# Altium schematic symbol library rlc.SchLib: 55 symbols
Pins are listed as number, name and electrical type; pins without a type are passive.

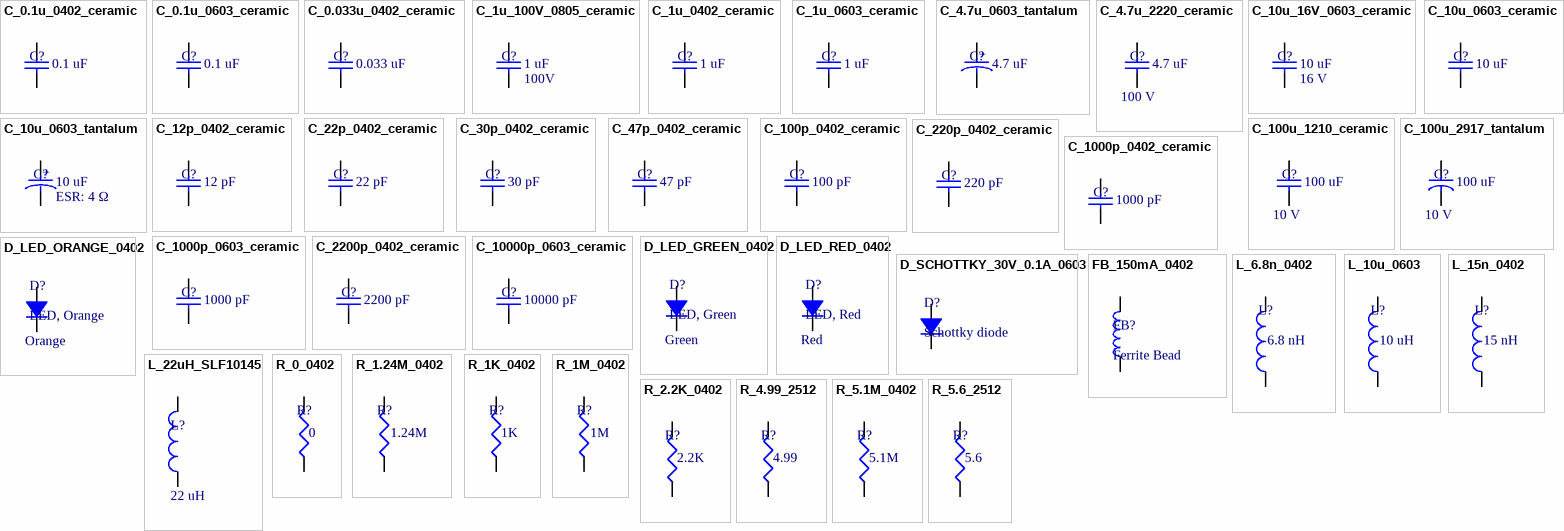
[diagram p0: symbols C_0.1u_0402_ceramic to R_5.6_2512]

## C_0.1u_0402_ceramic
designator C?, comment value 0.1 uF  (hidden comment: Ceramic capacitor)
Ceramic capacitor, 0.1u, 0402 package; Manufacture: TDK; voltage rated: 10 V; tolerance: 10%; Supplier 1: Digi-Key; Supplier Part Number 1: 445-1265-1-ND; package: 0402
footprint 0402 (2-Leads, Body 1.00x0.50mm, IPC Medium Density)
pins: 1, 2

## C_0.1u_0603_ceramic
designator C?, comment value 0.1 uF  (hidden comment: Ceramic capacitor)
Ceramic capacitor, 0.1 uF, 0603 package; Manufacture: TDK; voltage rated: 25V; tolerance: 10%; package: 0603; Supplier 1: Digi-Key; Supplier Part Number 1: 445-1316-1-ND
footprint 0603 (2-Leads, Body 1.55x0.85mm, IPC Medium Density)
pins: 1, 2

## C_0.033u_0402_ceramic
designator C?, comment value 0.033 uF  (hidden comment: Ceramic capacitor)
Ceramic capacitor, 0.033 uF, 0402 package; Manufacture: TDK; voltage rated: 50 V; tolerance: 10%; Temperature Coefficient: X7R; package: 0603; Supplier 1: Digi-Key; Supplier Part Number 1: 445-7334-1-ND
footprint 0402 (2-Leads, Body 1.00x0.50mm, IPC Medium Density)
pins: 1, 2

## C_1u_100V_0805_ceramic
designator C?, comment value 1 uF  voltage rated: 100V  (hidden comment: Ceramic capacitor)
Ceramic capacitor, 1 uF, 100 V, 0805 package; Manufacture: TDK; tolerance: 10%; Temperature Coefficient: X7S; package: 0805; Supplier 1: Digi-Key; Supplier Part Number 1: 445-5205-1-ND
footprint 0805 (Chip Resistor, Body 2.0x1.2mm, IPC Low Density)
pins: 1, 2

## C_1u_0402_ceramic
designator C?, comment value 1 uF  (hidden comment: Ceramic capacitor)
Ceramic capacitor, 1 uF, 0402 package; Manufacture: TDK; voltage rated: 6.3 V; tolerance: 10%; package: 0402; Supplier 1: Digi-Key; Supplier Part Number 1: 445-5000-1-ND
footprint 0402 (2-Leads, Body 1.00x0.50mm, IPC Medium Density)
pins: 1, 2

## C_1u_0603_ceramic
designator C?, comment value 1 uF  (hidden comment: Ceramic capacitor)
Ceramic capacitor, 1 uF, 0603 package; Manufacture: TDK; voltage rated: 10V; tolerance: 10%; package: 0603; Supplier 1: Digi-Key; Supplier Part Number 1: 445-1321-1-ND
footprint 0603 (2-Leads, Body 1.55x0.85mm, IPC Medium Density)
pins: 1, 2

## C_4.7u_0603_tantalum
designator C?, comment value 4.7 uF  (hidden comment: Tantalum capacitor)
Tantalum capacitor, 4.7 uF, 0603 package; Manufacture: Rohm; voltage rated: 10 V; tolerance: 20%; package: 0603; Supplier 1: Digi-Key; Supplier Part Number 1: 511-1496-1-ND
footprint 0603 - Polar Marking (2-Leads, Body 1.55x0.85mm, IPC Medium Density)
pins: 1, 2
text: +

## C_4.7u_2220_ceramic
designator C?, comment value 4.7 uF  voltage rated: 100 V  (hidden comment: Ceramic capacitor)
Ceramic capacitor, 4.7u, 2220 package; Manufacture: TDK; tolerance: 20%; Temp rating: X7R; package: 2220; Supplier 1: Digi-Key; Supplier Part Number 1: 445-1450-1-ND
footprint 2220 (Chip Capacitor, 2-Leads, Body 5.70x5.00mm, IPC Medium Density)
pins: 1, 2

## C_10u_16V_0603_ceramic
designator C?, comment value 10 uF  voltage rated: 16 V  (hidden comment: Ceramic capacitor)
Ceramic capacitor, 10 uF, 16 V, 0603 package; Manufacture: TDK; tolerance: 20%; Temperature Coefficient: X5R; package: 0603; Supplier 1: Digi-Key; Supplier Part Number 1: 445-9065-6-ND
footprint 0603 (2-Leads, Body 1.55x0.85mm, IPC Medium Density)
pins: 1, 2

## C_10u_0603_ceramic
designator C?, comment value 10 uF  (hidden comment: Ceramic capacitor)
Ceramic capacitor, 10 uF, 0603 package; Manufacture: TDK; voltage rated: 6.3V; tolerance: 20%; package: 0603; Supplier 1: Digi-Key; Supplier Part Number 1: 445-4112-1-ND
footprint 0603 (2-Leads, Body 1.55x0.85mm, IPC Medium Density)
pins: 1, 2

## C_10u_0603_tantalum
designator C?, comment value 10 uF  ESR: 4 Ω  (hidden comment: Tantalum capacitor)
Tantalum capacitor, 10 uF, 0603 package; Manufacture: AVX; voltage rated: 6.3V; tolerance: 10%; package: 0603; Supplier 1: Digi-Key; Supplier Part Number 1: 478-4959-1-ND
footprint 0603 - Polar Marking (2-Leads, Body 1.55x0.85mm, IPC Medium Density)
pins: 1, 2
text: +

## C_12p_0402_ceramic
designator C?, comment value 12 pF  (hidden comment: Ceramic capacitor)
Ceramic capacitor, 12 pF, 0402 package; Manufacture: Johanson; voltage rated: 50 V; tolerance: 2%; package: 0402; Supplier 1: Digi-Key; Supplier Part Number 1: 712-1256-1-ND
footprint 0402 (2-Leads, Body 1.00x0.50mm, IPC Medium Density)
pins: 1, 2

## C_22p_0402_ceramic
designator C?, comment value 22 pF  (hidden comment: Ceramic capacitor)
Ceramic capacitor, 22 pF, 0402 package; Manufacture: Johanson; voltage rated: 50 V; tolerance: 2%; package: 0402; Supplier 1: Digi-Key; Supplier Part Number 1: 712-1274-1-ND
footprint 0402 (2-Leads, Body 1.00x0.50mm, IPC Medium Density)
pins: 1, 2

## C_30p_0402_ceramic
designator C?, comment value 30 pF  (hidden comment: Ceramic capacitor)
Ceramic capacitor, 30 pF, 0402 package; Manufacture: Johanson; voltage rated: 50 V; tolerance: 2%; package: 0402; Supplier 1: Digi-Key; Supplier Part Number 1: 712-1295-1-ND
footprint 0402 (2-Leads, Body 1.00x0.50mm, IPC Medium Density)
pins: 1, 2

## C_47p_0402_ceramic
designator C?, comment value 47 pF  (hidden comment: Ceramic capacitor)
Ceramic capacitor, 47 pF, 0402 package; Manufacture: Johanson; voltage rated: 50 V; tolerance: 5%; package: 0402; Supplier 1: Digi-Key; Supplier Part Number 1: 709-1121-1-ND
footprint 0402 (2-Leads, Body 1.00x0.50mm, IPC Medium Density)
pins: 1, 2

## C_100p_0402_ceramic
designator C?, comment value 100 pF  (hidden comment: Ceramic capacitor)
Ceramic capacitor, 100 pF, 0402 package; Manufacture: Kemet; voltage rated: 25 V; tolerance: 1%; package: 0402; Supplier 1: Digi-Key; Supplier Part Number 1: 399-11246-1-ND
footprint 0402 (2-Leads, Body 1.00x0.50mm, IPC Medium Density)
pins: 1, 2

## C_100u_1210_ceramic
designator C?, comment value 100 uF  voltage rated: 10 V  (hidden comment: Ceramic capacitor)
Ceramic capacitor, 100u, 1210 package; Manufacture: Samsung; tolerance: 20%; package: 2917; Supplier 1: Digi-Key; Supplier Part Number 1: 1276-3364-1-ND
footprint 1210
pins: 1, 2

## C_100u_2917_tantalum
designator C?, comment value 100 uF  voltage rated: 10 V  (hidden comment: Ceramic capacitor)
Tantalum capacitor, 100u, 2917 package; Manufacture: Kemet; tolerance: 10%; package: 2917; Supplier 1: Digi-Key; Supplier Part Number 1: 399-3769-1-ND
footprint 2917 (Chip Capacitor, 2-Leads, Body 7.30x3.20mm, IPC Medium Density)
pins: 1, 2

## C_220p_0402_ceramic
designator C?, comment value 220 pF  (hidden comment: Ceramic capacitor)
Ceramic capacitor, 220 pF, 0402 package; Manufacture: Johanson; voltage rated: 50 V; tolerance: 10%; package: 0402; Temperature: X7R; Supplier 1: Digi-Key; Supplier Part Number 1: 445-1254-1-ND
footprint 0402 (2-Leads, Body 1.00x0.50mm, IPC Medium Density)
pins: 1, 2

## C_1000p_0402_ceramic
designator C?, comment value 1000 pF  (hidden comment: Ceramic capacitor)
Ceramic capacitor, 1000 pF, 0402 package; Manufacture: TDK; voltage rated: 50 V; tolerance: 10%; package: 0402; Supplier 1: Digi-Key; Supplier Part Number 1: 445-6846-1-ND
footprint 0402 (2-Leads, Body 1.00x0.50mm, IPC Medium Density)
pins: 1, 2

## C_1000p_0603_ceramic
designator C?, comment value 1000 pF  (hidden comment: Ceramic capacitor)
Ceramic capacitor, 1000 pF, 0603 package; Manufacture: TDK; voltage rated: 50V; tolerance: 10%; package: 0603; Supplier 1: Digi-Key; Supplier Part Number 1: 445-5659-1-ND
footprint 0603 (2-Leads, Body 1.55x0.85mm, IPC Medium Density)
pins: 1, 2

## C_2200p_0402_ceramic
designator C?, comment value 2200 pF  (hidden comment: Ceramic capacitor)
Ceramic capacitor, 2200 pF, 0402 package; Manufacture: TDK; voltage rated: 50 V; tolerance: 10%; Temperature Coefficient: X7R; package: 0402; Supplier 1: Digi-Key; Supplier Part Number 1: 445-1257-1-ND
footprint 0402 (2-Leads, Body 1.00x0.50mm, IPC Medium Density)
pins: 1, 2

## C_10000p_0603_ceramic
designator C?, comment value 10000 pF  (hidden comment: Ceramic capacitor)
Ceramic capacitor, 10000 pF, 0603 package; Manufacture: TDK; voltage rated: 25V; tolerance: 10%; package: 0603; Supplier 1: Digi-Key; Supplier Part Number 1: 445-5100-1-ND
footprint 0603 (2-Leads, Body 1.55x0.85mm, IPC Medium Density)
pins: 1, 2

## D_LED_GREEN_0402
designator D?, comment LED, Green  Color: Green
LED, Green,  0402; package: 0402; Supplier 1: Digi-Key; Supplier Part Number 1: 511-1592-1-ND
footprint 0402 - DIODE (2-Leads, Body 1.00x0.50mm, IPC Medium Density)
pins: 1, 2

## D_LED_ORANGE_0402
designator D?, comment LED, Orange  Color: Orange
LED, Orange, 0402; Supplier 1: Digi-Key; Supplier Part Number 1: 511-1590-1-ND; package: 0402
footprint 0402 - DIODE (2-Leads, Body 1.00x0.50mm, IPC Medium Density)
pins: 1, 2

## D_LED_RED_0402
designator D?, comment LED, Red  Color: Red
LED, Red, 0402; package: 0402; Supplier 1: Digi-Key; Supplier Part Number 1: 511-1593-1-ND
footprint 0402 - DIODE (2-Leads, Body 1.00x0.50mm, IPC Medium Density)
pins: 1, 2

## D_SCHOTTKY_30V_0.1A_0603
designator D?, comment Schottky diode
Schottky diode 30 V 0.1 A 0603; package: 0603; Supplier 1: Digi-Key; Supplier Part Number 1: 641-1282-1-ND
footprint 0603 - DIODE (2-Leads, Body 1.55x0.85mm, IPC Medium Density)
pins: 1, 2

## FB_150mA_0402
designator FB?, comment Ferrite Bead
Ferrite Bead, 150 mA, 0402 package; impedance@Freq: 1K@100 MHz; current rating: 150 mA; Supplier 1: Digi-Key; Supplier Part Number 1: 587-1835-1-ND; package: 0402
footprint 0402 (2-Leads, Body 1.00x0.50mm, IPC Medium Density)
pins: 1, 2

## L_6.8n_0402
designator L?, comment value 6.8 nH  (hidden comment: Chip inductor)
Chip inductor, 6.8 nH, 0402 package; tolerance: 5%; package: 0402; Supplier 1: Digi-Key; Supplier Part Number 1: 712-1419-1-ND
footprint 0402 (2-Leads, Body 1.00x0.50mm, IPC Medium Density)
pins: 1, 2

## L_10u_0603
designator L?, comment value 10 uH  (hidden comment: Chip inductor)
Chip inductor, 10 uH, 0603 package; tolerance: 20%; package: 0402; Supplier 1: Digi-Key; Supplier Part Number 1: 445-3608-1-ND
footprint 0603 (2-Leads, Body 1.55x0.85mm, IPC Medium Density)
pins: 1, 2

## L_15n_0402
designator L?, comment value 15 nH  (hidden comment: Chip inductor)
Chip inductor, 15 nH, 0402 package; tolerance: 5%; package: 0402; Supplier 1: Digi-Key; Supplier Part Number 1: 712-1408-1-ND
footprint 0402 (2-Leads, Body 1.00x0.50mm, IPC Medium Density)
pins: 1, 2

## L_22uH_SLF10145
designator L?  value 22 uH  (hidden comment: L_22uH_SLF10145)
Inductor, 22 uH, TDK SLF10145; Saturation current: 2.1 A; Supplier 1: Digi-Key; Supplier Part Number 1: 445-1981-1-ND
footprint SLF10145 (TDK chip inductors)
pins: 1, 2

## R_0_0402
designator R?, comment value 0  (hidden comment: Chip resistor)
Chip resistor, 0, 0402 package; package: 0402; Supplier 1: Digi-Key; Supplier Part Number 1: 541-0.0YBCT-ND
footprint 0402 (Chip Resistor, 2-Leads, Body 1.00x0.50mm, IPC Medium Density)
pins: 1, 2

## R_1.24M_0402
designator R?, comment value 1.24M  (hidden comment: Chip resistor)
Chip resistor, 1.24M, 0402 package; tolerance: 1%; power: 1/16 W; package: 0402; Supplier 1: Digi-Key; Supplier Part Number 1: 541-1.24MLCT-ND
footprint 0402 (Chip Resistor, 2-Leads, Body 1.00x0.50mm, IPC Medium Density)
pins: 1, 2

## R_1K_0402
designator R?, comment value 1K  (hidden comment: Chip resistor)
Chip resistor, 1K, 0402 package; tolerance: 1%; power: 1/16 W; Supplier 1: Digi-Key; Supplier Part Number 1: 541-1.00KLCT-ND; package: 0402
footprint 0402 (Chip Resistor, 2-Leads, Body 1.00x0.50mm, IPC Medium Density)
pins: 1, 2

## R_1M_0402
designator R?, comment value 1M  (hidden comment: Chip resistor)
Chip resistor, 1M, 0402 package; tolerance: 1%; power: 1/16 W; Supplier 1: Digi-Key; Supplier Part Number 1: 541-1.00MLCT-ND; package: 0402
footprint 0402 (Chip Resistor, 2-Leads, Body 1.00x0.50mm, IPC Medium Density)
pins: 1, 2

## R_2.2K_0402
designator R?, comment value 2.2K  (hidden comment: Chip resistor)
Chip resistor, 2.2K, 0402 package; tolerance: 1%; power: 1/16 W; package: 0402; Supplier 1: Digi-Key; Supplier Part Number 1: 541-2.20KLCT-ND
footprint 0402 (Chip Resistor, 2-Leads, Body 1.00x0.50mm, IPC Medium Density)
pins: 1, 2

## R_4.99_2512
designator R?, comment value 4.99  (hidden comment: Chip resistor)
Chip resistor, 4.99, 2512 package; tolerance: 1%; power: 1 W; Temperature Coefficient: 100 ppm; package: 2512; Supplier 1: Digi-Key; Supplier Part Number 1: 541-4.99AFCT-ND
footprint 2512 (Chip Capacitor, 2-Leads, Body 6.30x3.10mm, IPC Medium Density)
pins: 1, 2

## R_5.1M_0402
designator R?, comment value 5.1M  (hidden comment: Chip resistor)
Chip resistor, 5.1M,  0402 package; tolerance: 5%; power: 1/16 W; package: 0402; Supplier 1: Digi-Key; Supplier Part Number 1: 541-5.1MJCT-ND
footprint 0402 (Chip Resistor, 2-Leads, Body 1.00x0.50mm, IPC Medium Density)
pins: 1, 2

## R_5.6_2512
designator R?, comment value 5.6  (hidden comment: Chip resistor)
Chip resistor, 5.6, 2512 package; tolerance: 1%; power: 1 W; Temperature Coefficient: 100 ppm; package: 2512; Supplier 1: Digi-Key; Supplier Part Number 1: PT5.6YCT-ND
footprint 2512 (Chip Capacitor, 2-Leads, Body 6.30x3.10mm, IPC Medium Density)
pins: 1, 2

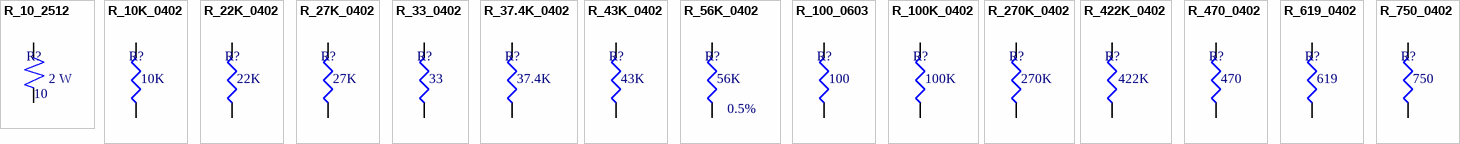
[diagram p1: symbols R_10_2512 to R_750_0402]

## R_10_2512
designator R?  value 10  Power: 2 W  (hidden comment: R_10_2512)
Resistor, 10 ohm, 2512 package; Tolerance: 5%; Supplier 1: Digi-Key; Supplier Part Number 1: CRM2512-JW-100ELFCT-ND
footprint 2512 (Chip Capacitor, 2-Leads, Body 6.30x3.10mm, IPC Medium Density)
pins: 1, 2

## R_10K_0402
designator R?, comment value 10K  (hidden comment: Chip resistor)
Chip resistor, 10K, 0402 package; tolerance: 1%; power: 1/16 W; Supplier 1: Digi-Key; Supplier Part Number 1: 541-10.0KLDKR-ND; package: 0402
footprint 0402 (Chip Resistor, 2-Leads, Body 1.00x0.50mm, IPC Medium Density)
pins: 1, 2

## R_22K_0402
designator R?, comment value 22K  (hidden comment: Chip resistor)
Chip resistor, 22K, 0402 package; tolerance: 1%; power: 1/16 W; package: 0402; Supplier 1: Digi-Key; Supplier Part Number 1: 541-22.0KLCT-ND
footprint 0402 (Chip Resistor, 2-Leads, Body 1.00x0.50mm, IPC Medium Density)
pins: 1, 2

## R_27K_0402
designator R?, comment value 27K  (hidden comment: Chip resistor)
Chip resistor, 27K, 0402 package; tolerance: 1%; power: 1/16 W; package: 0402; Supplier 1: Digi-Key; Supplier Part Number 1: 541-27.0KLCT-ND
footprint 0402 (Chip Resistor, 2-Leads, Body 1.00x0.50mm, IPC Medium Density)
pins: 1, 2

## R_33_0402
designator R?, comment value 33  (hidden comment: Chip resistor)
Chip resistor, 33, 0402 package; tolerance: 1%; power: 1/16 W; package: 0402; Supplier 1: Digi-Key; Supplier Part Number 1: 541-33.0LCT-ND
footprint 0402 (Chip Resistor, 2-Leads, Body 1.00x0.50mm, IPC Medium Density)
pins: 1, 2

## R_37.4K_0402
designator R?, comment value 37.4K  (hidden comment: Chip resistor)
Chip resistor, 37.4K, 0402 package; tolerance: 1%; power: 1/16 W; package: 0402; Supplier 1: Digi-Key; Supplier Part Number 1: 541-37.4KLCT-ND
footprint 0402 (Chip Resistor, 2-Leads, Body 1.00x0.50mm, IPC Medium Density)
pins: 1, 2

## R_43K_0402
designator R?, comment value 43K  (hidden comment: Chip resistor)
Chip resistor, 43K, 0402 package; tolerance: 1%; power: 1/16 W; Supplier 1: Digi-Key; Supplier Part Number 1: 541-43.0KLCT-ND; package: 0402
footprint 0402 (Chip Resistor, 2-Leads, Body 1.00x0.50mm, IPC Medium Density)
pins: 1, 2

## R_56K_0402
designator R?, comment value 56K  tolerance: 0.5%  (hidden comment: Chip resistor)
Chip resistor, 56K, 0402 package; power: 1/16 W; Temperature coefficient: 25 ppm/C; package: 0402; Supplier 1: Digi-Key; Supplier Part Number 1: P56KDECT-ND
footprint 0402 (Chip Resistor, 2-Leads, Body 1.00x0.50mm, IPC Medium Density)
pins: 1, 2

## R_100_0603
designator R?, comment value 100  (hidden comment: Chip resistor)
Chip resistor, 100,  0603 package; tolerance: 0.1%; power: 1/1 W; Temperature Coefficient: 25 ppm; package: 0603; Supplier 1: Digi-Key; Supplier Part Number 1: TNP100AACT-ND
footprint 0603 (2-Leads, Body 1.55x0.85mm, IPC Medium Density)
pins: 1, 2

## R_100K_0402
designator R?, comment value 100K  (hidden comment: Chip resistor)
Chip resistor, 100K, 0402 package; tolerance: 1%; power: 1/16 W; Supplier 1: Digi-Key; Supplier Part Number 1: 541-100KLCT-ND; package: 0402
footprint 0402 (Chip Resistor, 2-Leads, Body 1.00x0.50mm, IPC Medium Density)
pins: 1, 2

## R_270K_0402
designator R?, comment value 270K  (hidden comment: Chip resistor)
Chip resistor, 270K, 0402 package; tolerance: 1%; power: 1/16 W; package: 0402; Supplier 1: Digi-Key; Supplier Part Number 1: 541-270KLCT-ND
footprint 0402 (Chip Resistor, 2-Leads, Body 1.00x0.50mm, IPC Medium Density)
pins: 1, 2

## R_422K_0402
designator R?, comment value 422K  (hidden comment: Chip resistor)
Chip resistor, 422K, 0402 package; tolerance: 1%; power: 1/16 W; package: 0402; Supplier 1: Digi-Key; Supplier Part Number 1: 541-422KLCT-ND
footprint 0402 (Chip Resistor, 2-Leads, Body 1.00x0.50mm, IPC Medium Density)
pins: 1, 2

## R_470_0402
designator R?, comment value 470  (hidden comment: Chip resistor)
Chip resistor, 470, 0402 package; tolerance: 1%; power: 1/16 W; package: 0402; Supplier 1: Digi-Key; Supplier Part Number 1: 541-470LCT-ND
footprint 0402 (Chip Resistor, 2-Leads, Body 1.00x0.50mm, IPC Medium Density)
pins: 1, 2

## R_619_0402
designator R?, comment value 619  (hidden comment: Chip resistor)
Chip resistor, 619, 0402 package; tolerance: 1%; power: 1/16 W; package: 0402; Supplier 1: Digi-Key; Supplier Part Number 1: 541-619LCT-ND
footprint 0402 (Chip Resistor, 2-Leads, Body 1.00x0.50mm, IPC Medium Density)
pins: 1, 2

## R_750_0402
designator R?, comment value 750  (hidden comment: Chip resistor)
Chip resistor, 750, 0402 package; tolerance: 1%; power: 1/16 W; package: 0402; Supplier 1: Digi-Key; Supplier Part Number 1: 541-750LCT-ND
footprint 0402 (Chip Resistor, 2-Leads, Body 1.00x0.50mm, IPC Medium Density)
pins: 1, 2